# EAGLE library part SI4108_DEVICE (library SI4108DY_OLD)
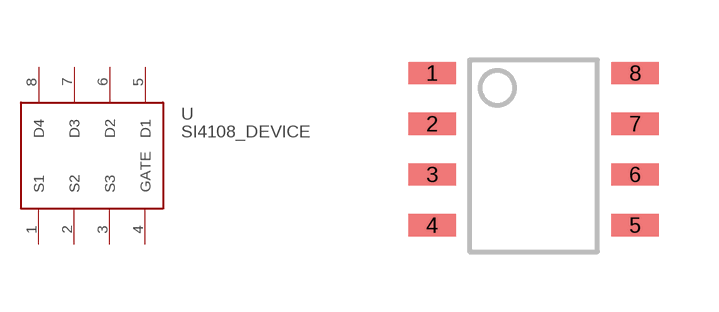
[diagram p0: symbol with the pads of SI4108DY_PACKAGE; footprint SI4108DY_PACKAGE]

Designator prefix -

## SI4108_DEVICE  [SI4108DY_PACKAGE]
1  S1
2  S2
3  S3
4  GATE
5  D1
6  D2
7  D3
8  D4

## Footprint SI4108DY_PACKAGE (pad centres in mm)
smd 1.194 x 0.559: 1 -2.54,1.27; 2 -2.54,0; 3 -2.54,-1.27; 4 -2.54,-2.54; 5 2.54,-2.54; 6 2.54,-1.27; 7 2.54,0; 8 2.54,1.27